# Altium schematic symbol library kmilo17pet-NSC_MiscPower.SchLib: 1552 symbols (part 1 of 43)
Pins are listed as number, name and electrical type; pins without a type are passive.

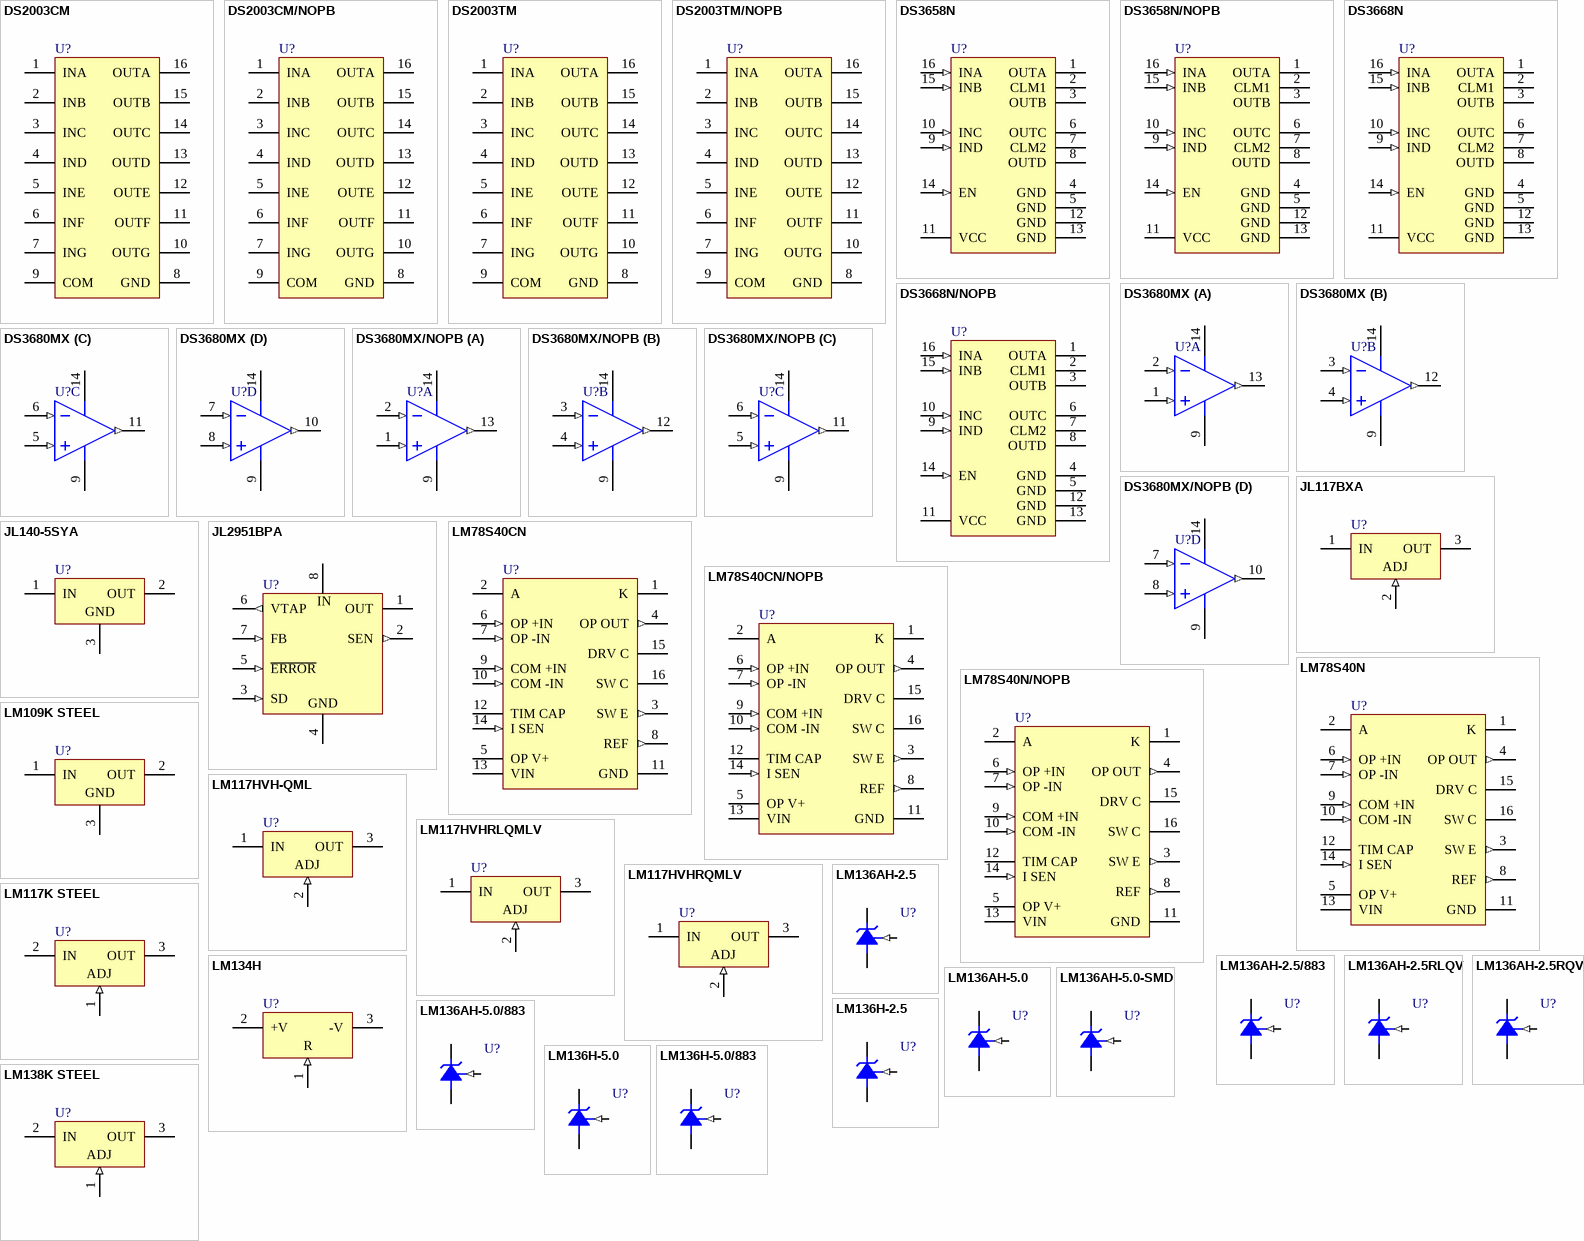
[diagram p0: symbols DS2003CM to LM138K STEEL]

## DS2003CM
designator U?
High Current/Voltage Darlington Driver, 16-pin Narrow SOIC; PartNumber: DS2003CM; Manufacturer: National Semiconductor; PackageTopMarking: NSUZXYTTE#*DS2003CM; PowerWise: N; CompType: MiscPower; High-Reliability: Y; DatasheetVersion: Nov-2009; PackageVersion: revJ, Aug-1995; PackageReference: M16A; PackageDescription: Molded Package, SO, .150in Wide, 16 Lead; RoHS: N; PinCount: 16; Code_JEDEC: MS-012-AC; Code_IPC: SOIC127P600-16; ComponentLink1Description: Manufacturer URL; ComponentLink1URL: http://www.national.com/; ComponentLink2Description: DS2003 Datasheet; ComponentLink2URL: http://www.national.com/ds/DS/DS2003.pdf; ComponentLink3Description: DS2003 Web Page; ComponentLink3URL: http://www.national.com/pf/DS/DS2003.html; ComponentLink4Description: M16A Package Page; ComponentLink4URL: http://www.national.com/packaging/folders/m16a.html
footprint M16A_N (SOIC, 16-Leads, Body 9.9x3.9mm, Pitch 1.27mm, IPC Medium Density)
footprint M16A_L (SOIC, 16-Leads, Body 9.9x3.9mm, Pitch 1.27mm, IPC High Density)
footprint M16A_M (SOIC, 16-Leads, Body 9.9x3.9mm, Pitch 1.27mm, IPC Low Density)
pins: 1 INA, 2 INB, 3 INC, 4 IND, 5 INE, 6 INF, 7 ING, 8 GND (power), 9 COM, 10 OUTG, 11 OUTF, 12 OUTE, 13 OUTD, 14 OUTC, 15 OUTB, 16 OUTA

## DS2003CM/NOPB
designator U?
High Current/Voltage Darlington Driver, 16-pin Narrow SOIC, Pb-Free; PartNumber: DS2003CM/NOPB; Manufacturer: National Semiconductor; PackageTopMarking: NSUZXYTTE#*DS2003CM; PowerWise: N; CompType: MiscPower; High-Reliability: Y; DatasheetVersion: Nov-2009; PackageVersion: revJ, Aug-1995; PackageReference: M16A; PackageDescription: Molded Package, SO, .150in Wide, 16 Lead; RoHS: Y; PinCount: 16; Code_JEDEC: MS-012-AC; Code_IPC: SOIC127P600-16; ComponentLink1Description: Manufacturer URL; ComponentLink1URL: http://www.national.com/; ComponentLink2Description: DS2003 Datasheet; ComponentLink2URL: http://www.national.com/ds/DS/DS2003.pdf; ComponentLink3Description: DS2003 Web Page; ComponentLink3URL: http://www.national.com/pf/DS/DS2003.html; ComponentLink4Description: M16A Package Page; ComponentLink4URL: http://www.national.com/packaging/folders/m16a.html
footprint M16A_N (SOIC, 16-Leads, Body 9.9x3.9mm, Pitch 1.27mm, IPC Medium Density)
footprint M16A_L (SOIC, 16-Leads, Body 9.9x3.9mm, Pitch 1.27mm, IPC High Density)
footprint M16A_M (SOIC, 16-Leads, Body 9.9x3.9mm, Pitch 1.27mm, IPC Low Density)
pins: 1 INA, 2 INB, 3 INC, 4 IND, 5 INE, 6 INF, 7 ING, 8 GND (power), 9 COM, 10 OUTG, 11 OUTF, 12 OUTE, 13 OUTD, 14 OUTC, 15 OUTB, 16 OUTA

## DS2003TM
designator U?
High Current/Voltage Darlington Driver, 16-pin Narrow SOIC; PartNumber: DS2003TM; Manufacturer: National Semiconductor; PackageTopMarking: NSUZXYTTE#*DS2003TM; PowerWise: N; CompType: MiscPower; High-Reliability: Y; DatasheetVersion: Nov-2009; PackageVersion: revJ, Aug-1995; PackageReference: M16A; PackageDescription: Molded Package, SO, .150in Wide, 16 Lead; RoHS: N; PinCount: 16; Code_JEDEC: MS-012-AC; Code_IPC: SOIC127P600-16; ComponentLink1Description: Manufacturer URL; ComponentLink1URL: http://www.national.com/; ComponentLink2Description: DS2003 Datasheet; ComponentLink2URL: http://www.national.com/ds/DS/DS2003.pdf; ComponentLink3Description: DS2003 Web Page; ComponentLink3URL: http://www.national.com/pf/DS/DS2003.html; ComponentLink4Description: M16A Package Page; ComponentLink4URL: http://www.national.com/packaging/folders/m16a.html
footprint M16A_N (SOIC, 16-Leads, Body 9.9x3.9mm, Pitch 1.27mm, IPC Medium Density)
footprint M16A_L (SOIC, 16-Leads, Body 9.9x3.9mm, Pitch 1.27mm, IPC High Density)
footprint M16A_M (SOIC, 16-Leads, Body 9.9x3.9mm, Pitch 1.27mm, IPC Low Density)
pins: 1 INA, 2 INB, 3 INC, 4 IND, 5 INE, 6 INF, 7 ING, 8 GND (power), 9 COM, 10 OUTG, 11 OUTF, 12 OUTE, 13 OUTD, 14 OUTC, 15 OUTB, 16 OUTA

## DS2003TM/NOPB
designator U?
High Current/Voltage Darlington Driver, 16-pin Narrow SOIC, Pb-Free; PartNumber: DS2003TM/NOPB; Manufacturer: National Semiconductor; PackageTopMarking: NSUZXYTTE#*DS2003TM; PowerWise: N; CompType: MiscPower; High-Reliability: Y; DatasheetVersion: Nov-2009; PackageVersion: revJ, Aug-1995; PackageReference: M16A; PackageDescription: Molded Package, SO, .150in Wide, 16 Lead; RoHS: Y; PinCount: 16; Code_JEDEC: MS-012-AC; Code_IPC: SOIC127P600-16; ComponentLink1Description: Manufacturer URL; ComponentLink1URL: http://www.national.com/; ComponentLink2Description: DS2003 Datasheet; ComponentLink2URL: http://www.national.com/ds/DS/DS2003.pdf; ComponentLink3Description: DS2003 Web Page; ComponentLink3URL: http://www.national.com/pf/DS/DS2003.html; ComponentLink4Description: M16A Package Page; ComponentLink4URL: http://www.national.com/packaging/folders/m16a.html
footprint M16A_N (SOIC, 16-Leads, Body 9.9x3.9mm, Pitch 1.27mm, IPC Medium Density)
footprint M16A_L (SOIC, 16-Leads, Body 9.9x3.9mm, Pitch 1.27mm, IPC High Density)
footprint M16A_M (SOIC, 16-Leads, Body 9.9x3.9mm, Pitch 1.27mm, IPC Low Density)
pins: 1 INA, 2 INB, 3 INC, 4 IND, 5 INE, 6 INF, 7 ING, 8 GND (power), 9 COM, 10 OUTG, 11 OUTF, 12 OUTE, 13 OUTD, 14 OUTC, 15 OUTB, 16 OUTA

## DS3658N
designator U?
Quad High Current Peripheral Driver, 16-pin MDIP; PartNumber: DS3658N; Manufacturer: National Semiconductor; PackageTopMarking: NSUZXYYTTE#*DS3658N; PowerWise: N; CompType: MiscPower; High-Reliability: Y; DatasheetVersion: Nov-2001; PackageVersion: revG, May-2006; PackageReference: N16E; PackageDescription: MDIP, .750 x .250 x .130in, 16 Lead, .100in Pitch; RoHS: N; PinCount: 16; Code_JEDEC: MS-001-BB; ComponentLink1Description: Manufacturer URL; ComponentLink1URL: http://www.national.com/; ComponentLink2Description: DS3658 Datasheet; ComponentLink2URL: http://www.national.com/ds/DS/DS3658.pdf; ComponentLink3Description: DS3658 Web Page; ComponentLink3URL: http://www.national.com/pf/DS/DS3658.html; ComponentLink4Description: N16E Package Page; ComponentLink4URL: http://www.national.com/packaging/folders/n16e.html
footprint N16E (DIP, 16-Leads, Row Spacing 7.62mm, Pitch 2.54mm, Body 19.3x6.35mm)
pins: 1 OUTA (oc), 2 CLM1, 3 OUTB (oc), 4 GND (power), 5 GND (power), 6 OUTC (oc), 7 CLM2, 8 OUTD (oc), 9 IND (in), 10 INC (in), 11 VCC (power), 12 GND (power), 13 GND (power), 14 EN (in), 15 INB (in), 16 INA (in)

## DS3658N/NOPB
designator U?
Quad High Current Peripheral Driver, 16-pin MDIP, Pb-Free; PartNumber: DS3658N/NOPB; Manufacturer: National Semiconductor; PackageTopMarking: NSUZXYYTTE#*DS3658N; PowerWise: N; CompType: MiscPower; High-Reliability: Y; DatasheetVersion: Nov-2001; PackageVersion: revG, May-2006; PackageReference: N16E; PackageDescription: MDIP, .750 x .250 x .130in, 16 Lead, .100in Pitch; RoHS: Y; PinCount: 16; Code_JEDEC: MS-001-BB; ComponentLink1Description: Manufacturer URL; ComponentLink1URL: http://www.national.com/; ComponentLink2Description: DS3658 Datasheet; ComponentLink2URL: http://www.national.com/ds/DS/DS3658.pdf; ComponentLink3Description: DS3658 Web Page; ComponentLink3URL: http://www.national.com/pf/DS/DS3658.html; ComponentLink4Description: N16E Package Page; ComponentLink4URL: http://www.national.com/packaging/folders/n16e.html
footprint N16E (DIP, 16-Leads, Row Spacing 7.62mm, Pitch 2.54mm, Body 19.3x6.35mm)
pins: 1 OUTA (oc), 2 CLM1, 3 OUTB (oc), 4 GND (power), 5 GND (power), 6 OUTC (oc), 7 CLM2, 8 OUTD (oc), 9 IND (in), 10 INC (in), 11 VCC (power), 12 GND (power), 13 GND (power), 14 EN (in), 15 INB (in), 16 INA (in)

## DS3668N
designator U?
Quad Fault Protected Peripheral Driver, 16-pin MDIP; PartNumber: DS3668N; Manufacturer: National Semiconductor; PackageTopMarking: NSUZXYYTTE#*DS3668N; PowerWise: N; CompType: MiscPower; High-Reliability: Y; DatasheetVersion: Nov-2001; PackageVersion: revG, May-2006; PackageReference: N16E; PackageDescription: MDIP, .750 x .250 x .130in, 16 Lead, .100in Pitch; RoHS: N; PinCount: 16; Code_JEDEC: MS-001-BB; ComponentLink1Description: Manufacturer URL; ComponentLink1URL: http://www.national.com/; ComponentLink2Description: DS3668 Datasheet; ComponentLink2URL: http://www.national.com/ds/DS/DS3668.pdf; ComponentLink3Description: DS3668 Web Page; ComponentLink3URL: http://www.national.com/pf/DS/DS3668.html; ComponentLink4Description: N16E Package Page; ComponentLink4URL: http://www.national.com/packaging/folders/n16e.html
footprint N16E (DIP, 16-Leads, Row Spacing 7.62mm, Pitch 2.54mm, Body 19.3x6.35mm)
pins: 1 OUTA (oc), 2 CLM1, 3 OUTB (oc), 4 GND (power), 5 GND (power), 6 OUTC (oc), 7 CLM2, 8 OUTD (oc), 9 IND (in), 10 INC (in), 11 VCC (power), 12 GND (power), 13 GND (power), 14 EN (in), 15 INB (in), 16 INA (in)

## DS3668N/NOPB
designator U?
Quad Fault Protected Peripheral Driver, 16-pin MDIP, Pb-Free; PartNumber: DS3668N/NOPB; Manufacturer: National Semiconductor; PackageTopMarking: NSUZXYYTTE#*DS3668N; PowerWise: N; CompType: MiscPower; High-Reliability: Y; DatasheetVersion: Nov-2001; PackageVersion: revG, May-2006; PackageReference: N16E; PackageDescription: MDIP, .750 x .250 x .130in, 16 Lead, .100in Pitch; RoHS: Y; PinCount: 16; Code_JEDEC: MS-001-BB; ComponentLink1Description: Manufacturer URL; ComponentLink1URL: http://www.national.com/; ComponentLink2Description: DS3668 Datasheet; ComponentLink2URL: http://www.national.com/ds/DS/DS3668.pdf; ComponentLink3Description: DS3668 Web Page; ComponentLink3URL: http://www.national.com/pf/DS/DS3668.html; ComponentLink4Description: N16E Package Page; ComponentLink4URL: http://www.national.com/packaging/folders/n16e.html
footprint N16E (DIP, 16-Leads, Row Spacing 7.62mm, Pitch 2.54mm, Body 19.3x6.35mm)
pins: 1 OUTA (oc), 2 CLM1, 3 OUTB (oc), 4 GND (power), 5 GND (power), 6 OUTC (oc), 7 CLM2, 8 OUTD (oc), 9 IND (in), 10 INC (in), 11 VCC (power), 12 GND (power), 13 GND (power), 14 EN (in), 15 INB (in), 16 INA (in)

## DS3680MX
designator U?
Quad Negative Voltage Relay Driver, 14-pin Narrow SOIC; PartNumber: DS3680MX; Manufacturer: National Semiconductor; PackageTopMarking: NSUZXYTT*DS3680M; PowerWise: N; CompType: MiscPower; High-Reliability: Y; DatasheetVersion: Dec-2008; PackageVersion: revJ, Jan-1996; PackageReference: M14A; PackageDescription: Molded Package S.O., .150in Wide, 14 Lead; RoHS: N; PinCount: 14; Code_JEDEC: MS-012AB; Code_IPC: SOIC127P600-14; ComponentLink1Description: Manufacturer URL; ComponentLink1URL: http://www.national.com/; ComponentLink2Description: DS3680 Datasheet; ComponentLink2URL: http://www.national.com/ds/DS/DS3680.pdf; ComponentLink3Description: DS3680 Web Page; ComponentLink3URL: http://www.national.com/pf/DS/DS3680.html; ComponentLink4Description: M14A Package Page; ComponentLink4URL: http://www.national.com/packaging/folders/m14a.html
footprint M14A_N (SOIC, 14-Leads, Body 8.6x3.9mm, Pitch 1.27mm, IPC Medium Density)
footprint M14A_L (SOIC, 14-Leads, Body 8.6x3.9mm, Pitch 1.27mm, IPC High Density)
footprint M14A_M (SOIC, 14-Leads, Body 8.6x3.9mm, Pitch 1.27mm, IPC Low Density)
pins on every part: 9 VEE- (power), 14 GND (power)
part A pins: 1 +A IN (in), 2 -A IN (in), 13 OUT A (out)
part B pins: 3 -B IN (in), 4 +B IN (in), 12 OUT B (out)
part C pins: 5 +C IN (in), 6 -C IN (in), 11 OUT C (out)
part D pins: 7 -D IN (in), 8 +D IN (in), 10 OUT D (out)

## DS3680MX/NOPB
designator U?
Quad Negative Voltage Relay Driver, 14-pin Narrow SOIC, Pb-Free; PartNumber: DS3680MX/NOPB; Manufacturer: National Semiconductor; PackageTopMarking: NSUZXYTT*DS3680M; PowerWise: N; CompType: MiscPower; High-Reliability: Y; DatasheetVersion: Dec-2008; PackageVersion: revJ, Jan-1996; PackageReference: M14A; PackageDescription: Molded Package S.O., .150in Wide, 14 Lead; RoHS: Y; PinCount: 14; Code_JEDEC: MS-012AB; Code_IPC: SOIC127P600-14; ComponentLink1Description: Manufacturer URL; ComponentLink1URL: http://www.national.com/; ComponentLink2Description: DS3680 Datasheet; ComponentLink2URL: http://www.national.com/ds/DS/DS3680.pdf; ComponentLink3Description: DS3680 Web Page; ComponentLink3URL: http://www.national.com/pf/DS/DS3680.html; ComponentLink4Description: M14A Package Page; ComponentLink4URL: http://www.national.com/packaging/folders/m14a.html
footprint M14A_N (SOIC, 14-Leads, Body 8.6x3.9mm, Pitch 1.27mm, IPC Medium Density)
footprint M14A_L (SOIC, 14-Leads, Body 8.6x3.9mm, Pitch 1.27mm, IPC High Density)
footprint M14A_M (SOIC, 14-Leads, Body 8.6x3.9mm, Pitch 1.27mm, IPC Low Density)
pins on every part: 9 VEE- (power), 14 GND (power)
part A pins: 1 +A IN (in), 2 -A IN (in), 13 OUT A (out)
part B pins: 3 -B IN (in), 4 +B IN (in), 12 OUT B (out)
part C pins: 5 +C IN (in), 6 -C IN (in), 11 OUT C (out)
part D pins: 7 -D IN (in), 8 +D IN (in), 10 OUT D (out)

## JL117BXA
designator U?
3-Terminal Adjustable Regulator, 3-pin TO-39; PartNumber: JL117BXA; Manufacturer: National Semiconductor; PackageTopMarking: NS ZSSXXYYA 27014 Q*JM38510/11703BXA; PowerWise: N; CompType: MiscPower; High-Reliability: Y; DatasheetVersion: Mar-2010; PackageVersion: revD, Feb-1995; PackageReference: H03A; PackageDescription: Metal Can, TO-39, 3 Lead, .200in Dia, P.C.; RoHS: N; PinCount: 3; Code_JEDEC: TO-39; ComponentLink1Description: Manufacturer URL; ComponentLink1URL: http://www.national.com/; ComponentLink2Description: LM117JAN Datasheet; ComponentLink2URL: http://www.national.com/ds/LM/LM117JAN.pdf; ComponentLink3Description: LM117JAN Web Page; ComponentLink3URL: http://www.national.com/pf/LM/LM117JAN.html; ComponentLink4Description: H03A Package Page; ComponentLink4URL: http://www.national.com/packaging/folders/h03a.html
footprint H03A (Can; 3 Leads; Pin Circle Dia. 5.08 mm; Lead Dia. 0.48 mm (max))
pins: 1 IN (power), 2 ADJ (in), 3 OUT (power)

## JL140-5SYA
designator U?
Three Terminal Positive Regulators, 2 pin TO-3; PartNumber: JL140-5SYA; Manufacturer: National Semiconductor; PackageTopMarking: NSZSSXXYYA*JM38510/*10706SYA*27014 Q; PowerWise: N; CompType: MiscPower; High-Reliability: Y; DatasheetVersion: Feb-2006; PackageVersion: revE, Sep-1995; PackageReference: K02C; PackageDescription: Metal Can TO-3, 2 Lead, Low Profile; RoHS: N; PinCount: 2; ComponentLink1Description: Manufacturer URL; ComponentLink1URL: http://www.national.com/; ComponentLink2Description: LM140JAN Datasheet; ComponentLink2URL: http://www.national.com/ds/LM/LM140JAN.pdf; ComponentLink3Description: LM140JAN Web Page; ComponentLink3URL: http://www.national.com/pf/LM/LM140JAN.html; ComponentLink4Description: K02C Package Page; ComponentLink4URL: http://www.national.com/packaging/folders/k02c.html
footprint K02C (Oval Flange Mount with (2) Offset Leads; Pin Spacing 10.92 mm; Lead Dia. 1.09 mm (max))
pins: 1 IN, 2 OUT, 3 GND (power)

## JL2951BPA
designator U?
Adjustable Micropower Voltage Regulator, 8-pin CerDIP; PartNumber: JL2951BPA; Manufacturer: National Semiconductor; PackageTopMarking: NS 5962-*3870501BPA*27014 Q*ZSSXXYYA; PowerWise: N; CompType: MiscPower; High-Reliability: Y; DatasheetVersion: Jun-2009; PackageVersion: revM, Jul-2002; PackageReference: J08A; PackageDescription: Cerdip, .400 x .310in Body, 8 Lead, .300in Centers, .100in Pitch; RoHS: N; PinCount: 8; ComponentLink1Description: Manufacturer URL; ComponentLink1URL: http://www.national.com/; ComponentLink2Description: LP2951 Datasheet; ComponentLink2URL: http://www.national.com/ds/LP/LP2951JAN.pdf; ComponentLink3Description: LP2951 Web Page; ComponentLink3URL: http://www.national.com/pf/LP/LP2951.html; ComponentLink4Description: J08A Package Page; ComponentLink4URL: http://www.national.com/packaging/folders/j08a.html
footprint J08A (DIP, 8-Leads, Row Spacing 7.62mm, Pitch 2.54mm, Body 9.78x6.73mm)
pins: 1 OUT (power), 2 SEN (out), 3 SD (in), 4 GND (power), 5 ~{ERROR} (in), 6 VTAP (out), 7 FB (in), 8 IN (power)

## LM78S40CN
designator U?
Universal Switching Regulator Subsystem, 16-pin MDIP; PartNumber: LM78S40CN; Manufacturer: National Semiconductor; PackageTopMarking: NSUZXYYTTE#*LM78S40CN; PowerWise: N; CompType: MiscPower; High-Reliability: Y; DatasheetVersion: Apr-1998; PackageVersion: revG, May-2006; PackageReference: N16E; PackageDescription: MDIP, .750 x .250 x .130in, 16 Lead, .100in Pitch; RoHS: N; PinCount: 16; Code_JEDEC: MS-001-BB; ComponentLink1Description: Manufacturer URL; ComponentLink1URL: http://www.national.com/; ComponentLink2Description: LM78S40 Datasheet; ComponentLink2URL: http://www.national.com/ds/LM/LM78S40.pdf; ComponentLink3Description: LM78S40 Web Page; ComponentLink3URL: http://www.national.com/pf/LM/LM78S40.html; ComponentLink4Description: N16E Package Page; ComponentLink4URL: http://www.national.com/packaging/folders/n16e.html
footprint N16E (DIP, 16-Leads, Row Spacing 7.62mm, Pitch 2.54mm, Body 19.3x6.35mm)
pins: 1 K, 2 A, 3 SW E (out), 4 OP OUT (out), 5 OP V+ (power), 6 OP +IN (in), 7 OP -IN (in), 8 REF (out), 9 COM +IN (in), 10 COM -IN (in), 11 GND (power), 12 TIM CAP, 13 VIN (power), 14 I SEN (in), 15 DRV C (oc), 16 SW C (oc)

## LM78S40CN/NOPB
designator U?
Universal Switching Regulator Subsystem, 16-pin MDIP, Pb-Free; PartNumber: LM78S40CN/NOPB; Manufacturer: National Semiconductor; PackageTopMarking: NSUZXYYTTE#*LM78S40CN; PowerWise: N; CompType: MiscPower; High-Reliability: Y; DatasheetVersion: Apr-1998; PackageVersion: revG, May-2006; PackageReference: N16E; PackageDescription: MDIP, .750 x .250 x .130in, 16 Lead, .100in Pitch; RoHS: Y; PinCount: 16; Code_JEDEC: MS-001-BB; ComponentLink1Description: Manufacturer URL; ComponentLink1URL: http://www.national.com/; ComponentLink2Description: LM78S40 Datasheet; ComponentLink2URL: http://www.national.com/ds/LM/LM78S40.pdf; ComponentLink3Description: LM78S40 Web Page; ComponentLink3URL: http://www.national.com/pf/LM/LM78S40.html; ComponentLink4Description: N16E Package Page; ComponentLink4URL: http://www.national.com/packaging/folders/n16e.html
footprint N16E (DIP, 16-Leads, Row Spacing 7.62mm, Pitch 2.54mm, Body 19.3x6.35mm)
pins: 1 K, 2 A, 3 SW E (out), 4 OP OUT (out), 5 OP V+ (power), 6 OP +IN (in), 7 OP -IN (in), 8 REF (out), 9 COM +IN (in), 10 COM -IN (in), 11 GND (power), 12 TIM CAP, 13 VIN (power), 14 I SEN (in), 15 DRV C (oc), 16 SW C (oc)

## LM78S40N
designator U?
Universal Switching Regulator Subsystem, 16-pin MDIP; PartNumber: LM78S40N; Manufacturer: National Semiconductor; PackageTopMarking: NSUZXYYTTE#*LM78S40N; PowerWise: N; CompType: MiscPower; High-Reliability: Y; DatasheetVersion: Apr-1998; PackageVersion: revG, May-2006; PackageReference: N16E; PackageDescription: MDIP, .750 x .250 x .130in, 16 Lead, .100in Pitch; RoHS: N; PinCount: 16; Code_JEDEC: MS-001-BB; ComponentLink1Description: Manufacturer URL; ComponentLink1URL: http://www.national.com/; ComponentLink2Description: LM78S40 Datasheet; ComponentLink2URL: http://www.national.com/ds/LM/LM78S40.pdf; ComponentLink3Description: LM78S40 Web Page; ComponentLink3URL: http://www.national.com/pf/LM/LM78S40.html; ComponentLink4Description: N16E Package Page; ComponentLink4URL: http://www.national.com/packaging/folders/n16e.html
footprint N16E (DIP, 16-Leads, Row Spacing 7.62mm, Pitch 2.54mm, Body 19.3x6.35mm)
pins: 1 K, 2 A, 3 SW E (out), 4 OP OUT (out), 5 OP V+ (power), 6 OP +IN (in), 7 OP -IN (in), 8 REF (out), 9 COM +IN (in), 10 COM -IN (in), 11 GND (power), 12 TIM CAP, 13 VIN (power), 14 I SEN (in), 15 DRV C (oc), 16 SW C (oc)

## LM78S40N/NOPB
designator U?
Universal Switching Regulator Subsystem, 16-pin MDIP, Pb-Free; PartNumber: LM78S40N/NOPB; Manufacturer: National Semiconductor; PackageTopMarking: NSUZXYYTTE#*LM78S40N; PowerWise: N; CompType: MiscPower; High-Reliability: Y; DatasheetVersion: Apr-1998; PackageVersion: revG, May-2006; PackageReference: N16E; PackageDescription: MDIP, .750 x .250 x .130in, 16 Lead, .100in Pitch; RoHS: Y; PinCount: 16; Code_JEDEC: MS-001-BB; ComponentLink1Description: Manufacturer URL; ComponentLink1URL: http://www.national.com/; ComponentLink2Description: LM78S40 Datasheet; ComponentLink2URL: http://www.national.com/ds/LM/LM78S40.pdf; ComponentLink3Description: LM78S40 Web Page; ComponentLink3URL: http://www.national.com/pf/LM/LM78S40.html; ComponentLink4Description: N16E Package Page; ComponentLink4URL: http://www.national.com/packaging/folders/n16e.html
footprint N16E (DIP, 16-Leads, Row Spacing 7.62mm, Pitch 2.54mm, Body 19.3x6.35mm)
pins: 1 K, 2 A, 3 SW E (out), 4 OP OUT (out), 5 OP V+ (power), 6 OP +IN (in), 7 OP -IN (in), 8 REF (out), 9 COM +IN (in), 10 COM -IN (in), 11 GND (power), 12 TIM CAP, 13 VIN (power), 14 I SEN (in), 15 DRV C (oc), 16 SW C (oc)

## LM109K STEEL
designator U?
5-Volt Regulator, 3-pin TO-3; PartNumber: LM109K STEEL; Manufacturer: National Semiconductor; PackageTopMarking: NS*ZXYTTE#*LM109K*STEELP+; PowerWise: N; CompType: MiscPower; High-Reliability: Y; DatasheetVersion: Apr-1998; PackageVersion: revG, Oct-1991; PackageReference: K02A; PackageDescription: Metal Can (KA) TO-3, 2 Lead; RoHS: N; PinCount: 2; ComponentLink1Description: Manufacturer URL; ComponentLink1URL: http://www.national.com/; ComponentLink2Description: LM109 Datasheet; ComponentLink2URL: http://www.national.com/ds/LM/LM109.pdf; ComponentLink3Description: LM109 Web Page; ComponentLink3URL: http://www.national.com/pf/LM/LM109.html; ComponentLink4Description: K02A Package Page; ComponentLink4URL: http://www.national.com/packaging/folders/k02a.html
footprint K02A (Oval Flange Mount with (2) Offset Leads; Pin Spacing 10.93 mm; Lead Dia. 1.09 mm (max))
pins: 1 IN (power), 2 OUT (power), 3 GND (power)

## LM117HVH-QML
designator U?
3-Terminal Adjustable Regulator, 3-pin TO-39; PartNumber: LM117HVH-QML; Manufacturer: National Semiconductor; PackageTopMarking: NSZSSXXYYA 5962-07229*01QXA LM117HVH-QML Q; PowerWise: N; CompType: MiscPower; High-Reliability: Y; DatasheetVersion: Apr-2000; PackageVersion: revD, Feb-1995; PackageReference: H03A; PackageDescription: Metal Can, TO-39, 3 Lead, .200in Dia, P.C.; RoHS: N; PinCount: 3; Code_JEDEC: TO-39; ComponentLink1Description: Manufacturer URL; ComponentLink1URL: http://www.national.com/; ComponentLink2Description: LM117HV Datasheet; ComponentLink2URL: http://www.national.com/ds/LM/LM117HVQML.pdf; ComponentLink3Description: LM117HV Web Page; ComponentLink3URL: http://www.national.com/pf/LM/LM117HV.html; ComponentLink4Description: H03A Package Page; ComponentLink4URL: http://www.national.com/packaging/folders/h03a.html
footprint H03A (Can; 3 Leads; Pin Circle Dia. 5.08 mm; Lead Dia. 0.48 mm (max))
pins: 1 IN (power), 2 ADJ (in), 3 OUT (power)

## LM117HVHRLQMLV
designator U?
3-Terminal Adjustable Regulator, 3-pin TO-39; PartNumber: LM117HVHRLQMLV; Manufacturer: National Semiconductor; PackageTopMarking: NSZSSXXYYA 5962R07229*61VXA LM117HVHRLQV Q; PowerWise: N; CompType: MiscPower; High-Reliability: Y; DatasheetVersion: Apr-2000; PackageVersion: revD, Feb-1995; PackageReference: H03A; PackageDescription: Metal Can, TO-39, 3 Lead, .200in Dia, P.C.; RoHS: N; PinCount: 3; Code_JEDEC: TO-39; ComponentLink1Description: Manufacturer URL; ComponentLink1URL: http://www.national.com/; ComponentLink2Description: LM117HV Datasheet; ComponentLink2URL: http://www.national.com/ds/LM/LM117HVQML.pdf; ComponentLink3Description: LM117HV Web Page; ComponentLink3URL: http://www.national.com/pf/LM/LM117HV.html; ComponentLink4Description: H03A Package Page; ComponentLink4URL: http://www.national.com/packaging/folders/h03a.html
footprint H03A (Can; 3 Leads; Pin Circle Dia. 5.08 mm; Lead Dia. 0.48 mm (max))
pins: 1 IN (power), 2 ADJ (in), 3 OUT (power)

## LM117HVHRQMLV
designator U?
3-Terminal Adjustable Regulator, 3-pin TO-39; PartNumber: LM117HVHRQMLV; Manufacturer: National Semiconductor; PackageTopMarking: NSZSSXXYYA 5962R07229*01VXA LM117HVHRQV Q; PowerWise: N; CompType: MiscPower; High-Reliability: Y; DatasheetVersion: Apr-2000; PackageVersion: revD, Feb-1995; PackageReference: H03A; PackageDescription: Metal Can, TO-39, 3 Lead, .200in Dia, P.C.; RoHS: N; PinCount: 3; Code_JEDEC: TO-39; ComponentLink1Description: Manufacturer URL; ComponentLink1URL: http://www.national.com/; ComponentLink2Description: LM117HV Datasheet; ComponentLink2URL: http://www.national.com/ds/LM/LM117HVQML.pdf; ComponentLink3Description: LM117HV Web Page; ComponentLink3URL: http://www.national.com/pf/LM/LM117HV.html; ComponentLink4Description: H03A Package Page; ComponentLink4URL: http://www.national.com/packaging/folders/h03a.html
footprint H03A (Can; 3 Leads; Pin Circle Dia. 5.08 mm; Lead Dia. 0.48 mm (max))
pins: 1 IN (power), 2 ADJ (in), 3 OUT (power)

## LM117K STEEL
designator U?
3-Terminal Adjustable Regulator, 3-pin TO-3; PartNumber: LM117K STEEL; Manufacturer: National Semiconductor; PackageTopMarking: NS*ZXYTTE#*LM117K*STEELP+; PowerWise: N; CompType: MiscPower; High-Reliability: Y; DatasheetVersion: Mar-2010; PackageVersion: revG, Oct-1991; PackageReference: K02A; PackageDescription: Metal Can (KA) TO-3, 2 Lead; RoHS: N; PinCount: 2; ComponentLink1Description: Manufacturer URL; ComponentLink1URL: http://www.national.com/; ComponentLink2Description: LM117 Datasheet; ComponentLink2URL: http://www.national.com/ds/LM/LM117.pdf; ComponentLink3Description: LM117 Web Page; ComponentLink3URL: http://www.national.com/pf/LM/LM117.html; ComponentLink4Description: K02A Package Page; ComponentLink4URL: http://www.national.com/packaging/folders/k02a.html
footprint K02A (Oval Flange Mount with (2) Offset Leads; Pin Spacing 10.93 mm; Lead Dia. 1.09 mm (max))
pins: 1 ADJ (in), 2 IN (power), 3 OUT (power)

## LM134H
designator U?
3-Terminal Adjustable Current Source, 3-pin TO-46; PartNumber: LM134H; Manufacturer: National Semiconductor; PackageTopMarking: NSXYTTE# LM134H; PowerWise: N; CompType: MiscPower; High-Reliability: Y; DatasheetVersion: Mar-2005; PackageVersion: revF, Apr-2002; PackageReference: H03H; PackageDescription: Metal Can, TO-46, 3 Lead, .100in Dia, P.C.; RoHS: N; PinCount: 3; Code_JEDEC: TO-46; ComponentLink1Description: Manufacturer URL; ComponentLink1URL: http://www.national.com/; ComponentLink2Description: LM134 Datasheet; ComponentLink2URL: http://www.national.com/ds/LM/LM134.pdf; ComponentLink3Description: LM134 Web Page; ComponentLink3URL: http://www.national.com/pf/LM/LM134.html; ComponentLink4Description: H03H Package Page; ComponentLink4URL: http://www.national.com/packaging/folders/h03h.html
footprint H03H (Can; 3 Leads; Pin Circle Dia. 2.54 mm; Lead Dia. 0.48 mm (max))
pins: 1 R (in), 2 +V, 3 -V

## LM136AH-2.5
designator U?
Voltage Reference Diode, 3-pin TO-46; PartNumber: LM136AH-2.5; Manufacturer: National Semiconductor; PackageTopMarking: NSXYTTE# LM136AH2.5; PowerWise: N; CompType: MiscPower; High-Reliability: Y; DatasheetVersion: Feb-2009; PackageVersion: revF, Apr-2002; PackageReference: H03H; PackageDescription: Metal Can, TO-46, 3 Lead, .100in Dia, P.C.; RoHS: N; PinCount: 3; Code_JEDEC: TO-46; ComponentLink1Description: Manufacturer URL; ComponentLink1URL: http://www.national.com/; ComponentLink2Description: LM136-2.5 Datasheet; ComponentLink2URL: http://www.national.com/ds/LM/LM136-2.5.pdf; ComponentLink3Description: LM136-2.5 Web Page; ComponentLink3URL: http://www.national.com/pf/LM/LM136-2.5.html; ComponentLink4Description: H03H Package Page; ComponentLink4URL: http://www.national.com/packaging/folders/h03h.html
footprint H03H (Can; 3 Leads; Pin Circle Dia. 2.54 mm; Lead Dia. 0.48 mm (max))
pins: 1 ADJ (in), 2 +V, 3 -V

## LM136AH-2.5/883
designator U?
Voltage Reference Diode, 3-pin TO-46; PartNumber: LM136AH-2.5/883; Manufacturer: National Semiconductor; PackageTopMarking: NSZSSXXYYA LM136AH-2.5 Q; PowerWise: N; CompType: MiscPower; High-Reliability: Y; DatasheetVersion: Feb-2009; PackageVersion: revF, Apr-2002; PackageReference: H03H; PackageDescription: Metal Can, TO-46, 3 Lead, .100in Dia, P.C.; RoHS: N; PinCount: 3; Code_JEDEC: TO-46; ComponentLink1Description: Manufacturer URL; ComponentLink1URL: http://www.national.com/; ComponentLink2Description: LM136A-2.5QML Datasheet; ComponentLink2URL: http://www.national.com/ds/LM/LM136A-2.5QML.pdf; ComponentLink3Description: LM136A-2.5QML Web Page; ComponentLink3URL: http://www.national.com/pf/LM/LM136A-2.5QML.html; ComponentLink4Description: H03H Package Page; ComponentLink4URL: http://www.national.com/packaging/folders/h03h.html
footprint H03H (Can; 3 Leads; Pin Circle Dia. 2.54 mm; Lead Dia. 0.48 mm (max))
pins: 1 ADJ (in), 2 +V, 3 -V

## LM136AH-2.5RLQV
designator U?
Voltage Reference Diode, 3-pin TO-46; PartNumber: LM136AH-2.5RLQV; Manufacturer: National Semiconductor; PackageTopMarking: NSZSSXXYYAR0050102VXA Q; PowerWise: N; CompType: MiscPower; High-Reliability: Y; DatasheetVersion: Feb-2009; PackageVersion: revF, Apr-2002; PackageReference: H03H; PackageDescription: Metal Can, TO-46, 3 Lead, .100in Dia, P.C.; RoHS: N; PinCount: 3; Code_JEDEC: TO-46; ComponentLink1Description: Manufacturer URL; ComponentLink1URL: http://www.national.com/; ComponentLink2Description: LM136A-2.5QML Datasheet; ComponentLink2URL: http://www.national.com/ds/LM/LM136A-2.5QML.pdf; ComponentLink3Description: LM136A-2.5QML Web Page; ComponentLink3URL: http://www.national.com/pf/LM/LM136A-2.5QML.html; ComponentLink4Description: H03H Package Page; ComponentLink4URL: http://www.national.com/packaging/folders/h03h.html
footprint H03H (Can; 3 Leads; Pin Circle Dia. 2.54 mm; Lead Dia. 0.48 mm (max))
pins: 1 ADJ (in), 2 +V, 3 -V

## LM136AH-2.5RQV
designator U?
Voltage Reference Diode, 3-pin TO-46; PartNumber: LM136AH-2.5RQV; Manufacturer: National Semiconductor; PackageTopMarking: NSZSSXXYYAR0050101VXA Q; PowerWise: N; CompType: MiscPower; High-Reliability: Y; DatasheetVersion: Feb-2009; PackageVersion: revF, Apr-2002; PackageReference: H03H; PackageDescription: Metal Can, TO-46, 3 Lead, .100in Dia, P.C.; RoHS: N; PinCount: 3; Code_JEDEC: TO-46; ComponentLink1Description: Manufacturer URL; ComponentLink1URL: http://www.national.com/; ComponentLink2Description: LM136A-2.5QML Datasheet; ComponentLink2URL: http://www.national.com/ds/LM/LM136A-2.5QML.pdf; ComponentLink3Description: LM136A-2.5QML Web Page; ComponentLink3URL: http://www.national.com/pf/LM/LM136A-2.5QML.html; ComponentLink4Description: H03H Package Page; ComponentLink4URL: http://www.national.com/packaging/folders/h03h.html
footprint H03H (Can; 3 Leads; Pin Circle Dia. 2.54 mm; Lead Dia. 0.48 mm (max))
pins: 1 ADJ (in), 2 +V, 3 -V

## LM136AH-5.0
designator U?
5.0V Reference Diode, 3-pin TO-46; PartNumber: LM136AH-5.0; Manufacturer: National Semiconductor; PackageTopMarking: NSXYTTE# LM136AH5.0; PowerWise: N; CompType: MiscPower; High-Reliability: Y; DatasheetVersion: Feb-2009; PackageVersion: revF, Apr-2002; PackageReference: H03H; PackageDescription: Metal Can, TO-46, 3 Lead, .100in Dia, P.C.; RoHS: N; PinCount: 3; Code_JEDEC: TO-46; ComponentLink1Description: Manufacturer URL; ComponentLink1URL: http://www.national.com/; ComponentLink2Description: LM136-5.0 Datasheet; ComponentLink2URL: http://www.national.com/ds/LM/LM136-5.0.pdf; ComponentLink3Description: LM136-5.0 Web Page; ComponentLink3URL: http://www.national.com/pf/LM/LM136-5.0.html; ComponentLink4Description: H03H Package Page; ComponentLink4URL: http://www.national.com/packaging/folders/h03h.html
footprint H03H (Can; 3 Leads; Pin Circle Dia. 2.54 mm; Lead Dia. 0.48 mm (max))
pins: 1 ADJ (in), 2 +V, 3 -V

## LM136AH-5.0-SMD
designator U?
5.0V Reference Diode, 3-pin TO-46; PartNumber: LM136AH-5.0-SMD; Manufacturer: National Semiconductor; PackageTopMarking: NSZSSXXYYA 8418002XA Q; PowerWise: N; CompType: MiscPower; High-Reliability: Y; DatasheetVersion: Apr-2008; PackageVersion: revF, Apr-2002; PackageReference: H03H; PackageDescription: Metal Can, TO-46, 3 Lead, .100in Dia, P.C.; RoHS: N; PinCount: 3; Code_JEDEC: TO-46; ComponentLink1Description: Manufacturer URL; ComponentLink1URL: http://www.national.com/; ComponentLink2Description: LM136A-5.0QML Datasheet; ComponentLink2URL: http://www.national.com/ds/LM/LM136A-5.0QML.pdf; ComponentLink3Description: LM136A-5.0QML Web Page; ComponentLink3URL: http://www.national.com/pf/LM/LM136A-5.0QML.html; ComponentLink4Description: H03H Package Page; ComponentLink4URL: http://www.national.com/packaging/folders/h03h.html
footprint H03H (Can; 3 Leads; Pin Circle Dia. 2.54 mm; Lead Dia. 0.48 mm (max))
pins: 1 ADJ (in), 2 +V, 3 -V

## LM136AH-5.0/883
designator U?
5.0V Reference Diode, 3-pin TO-46; PartNumber: LM136AH-5.0/883; Manufacturer: National Semiconductor; PackageTopMarking: NSZSSXXYYA LM136AH-5.0 Q; PowerWise: N; CompType: MiscPower; High-Reliability: Y; DatasheetVersion: Apr-2008; PackageVersion: revF, Apr-2002; PackageReference: H03H; PackageDescription: Metal Can, TO-46, 3 Lead, .100in Dia, P.C.; RoHS: N; PinCount: 3; Code_JEDEC: TO-46; ComponentLink1Description: Manufacturer URL; ComponentLink1URL: http://www.national.com/; ComponentLink2Description: LM136A-5.0QML Datasheet; ComponentLink2URL: http://www.national.com/ds/LM/LM136A-5.0QML.pdf; ComponentLink3Description: LM136A-5.0QML Web Page; ComponentLink3URL: http://www.national.com/pf/LM/LM136A-5.0QML.html; ComponentLink4Description: H03H Package Page; ComponentLink4URL: http://www.national.com/packaging/folders/h03h.html
footprint H03H (Can; 3 Leads; Pin Circle Dia. 2.54 mm; Lead Dia. 0.48 mm (max))
pins: 1 ADJ (in), 2 +V, 3 -V

## LM136H-2.5
designator U?
Voltage Reference Diode, 3-pin TO-46; PartNumber: LM136H-2.5; Manufacturer: National Semiconductor; PackageTopMarking: NSXYTTE# LM136H2.5; PowerWise: N; CompType: MiscPower; High-Reliability: Y; DatasheetVersion: Feb-2009; PackageVersion: revF, Apr-2002; PackageReference: H03H; PackageDescription: Metal Can, TO-46, 3 Lead, .100in Dia, P.C.; RoHS: N; PinCount: 3; Code_JEDEC: TO-46; ComponentLink1Description: Manufacturer URL; ComponentLink1URL: http://www.national.com/; ComponentLink2Description: LM136-2.5 Datasheet; ComponentLink2URL: http://www.national.com/ds/LM/LM136-2.5.pdf; ComponentLink3Description: LM136-2.5 Web Page; ComponentLink3URL: http://www.national.com/pf/LM/LM136-2.5.html; ComponentLink4Description: H03H Package Page; ComponentLink4URL: http://www.national.com/packaging/folders/h03h.html
footprint H03H (Can; 3 Leads; Pin Circle Dia. 2.54 mm; Lead Dia. 0.48 mm (max))
pins: 1 ADJ (in), 2 +V, 3 -V

## LM136H-5.0
designator U?
5.0V Reference Diode, 3-pin TO-46; PartNumber: LM136H-5.0; Manufacturer: National Semiconductor; PackageTopMarking: NSXYTTE# LM136H5.0; PowerWise: N; CompType: MiscPower; High-Reliability: Y; DatasheetVersion: Feb-2009; PackageVersion: revF, Apr-2002; PackageReference: H03H; PackageDescription: Metal Can, TO-46, 3 Lead, .100in Dia, P.C.; RoHS: N; PinCount: 3; Code_JEDEC: TO-46; ComponentLink1Description: Manufacturer URL; ComponentLink1URL: http://www.national.com/; ComponentLink2Description: LM136-5.0 Datasheet; ComponentLink2URL: http://www.national.com/ds/LM/LM136-5.0.pdf; ComponentLink3Description: LM136-5.0 Web Page; ComponentLink3URL: http://www.national.com/pf/LM/LM136-5.0.html; ComponentLink4Description: H03H Package Page; ComponentLink4URL: http://www.national.com/packaging/folders/h03h.html
footprint H03H (Can; 3 Leads; Pin Circle Dia. 2.54 mm; Lead Dia. 0.48 mm (max))
pins: 1 ADJ (in), 2 +V, 3 -V

## LM136H-5.0/883
designator U?
5.0V Reference Diode, 3-pin TO-46; PartNumber: LM136H-5.0/883; Manufacturer: National Semiconductor; PackageTopMarking: NSZSSXXYYA LM136H-5.0 Q; PowerWise: N; CompType: MiscPower; High-Reliability: Y; DatasheetVersion: Apr-2008; PackageVersion: revF, Apr-2002; PackageReference: H03H; PackageDescription: Metal Can, TO-46, 3 Lead, .100in Dia, P.C.; RoHS: N; PinCount: 3; Code_JEDEC: TO-46; ComponentLink1Description: Manufacturer URL; ComponentLink1URL: http://www.national.com/; ComponentLink2Description: LM136-5.0QML Datasheet; ComponentLink2URL: http://www.national.com/ds/LM/LM136-5.0QML.pdf; ComponentLink3Description: LM136-5.0QML Web Page; ComponentLink3URL: http://www.national.com/pf/LM/LM136-5.0QML.html; ComponentLink4Description: H03H Package Page; ComponentLink4URL: http://www.national.com/packaging/folders/h03h.html
footprint H03H (Can; 3 Leads; Pin Circle Dia. 2.54 mm; Lead Dia. 0.48 mm (max))
pins: 1 ADJ (in), 2 +V, 3 -V

## LM138K STEEL
designator U?
5 Amp Adjustable Regulator, 3-pin TO-3; PartNumber: LM138K STEEL; Manufacturer: National Semiconductor; PackageTopMarking: NS*ZXYTTE#*LM138K*STEELP+; PowerWise: N; CompType: MiscPower; High-Reliability: Y; DatasheetVersion: May-1998; PackageVersion: revG, Oct-1991; PackageReference: K02A; PackageDescription: Metal Can (KA) TO-3, 2 Lead; RoHS: N; PinCount: 2; ComponentLink1Description: Manufacturer URL; ComponentLink1URL: http://www.national.com/; ComponentLink2Description: LM138 Datasheet; ComponentLink2URL: http://www.national.com/ds/LM/LM138.pdf; ComponentLink3Description: LM138 Web Page; ComponentLink3URL: http://www.national.com/pf/LM/LM138.html; ComponentLink4Description: K02A Package Page; ComponentLink4URL: http://www.national.com/packaging/folders/k02a.html
footprint K02A (Oval Flange Mount with (2) Offset Leads; Pin Spacing 10.93 mm; Lead Dia. 1.09 mm (max))
pins: 1 ADJ (in), 2 IN (power), 3 OUT (power)

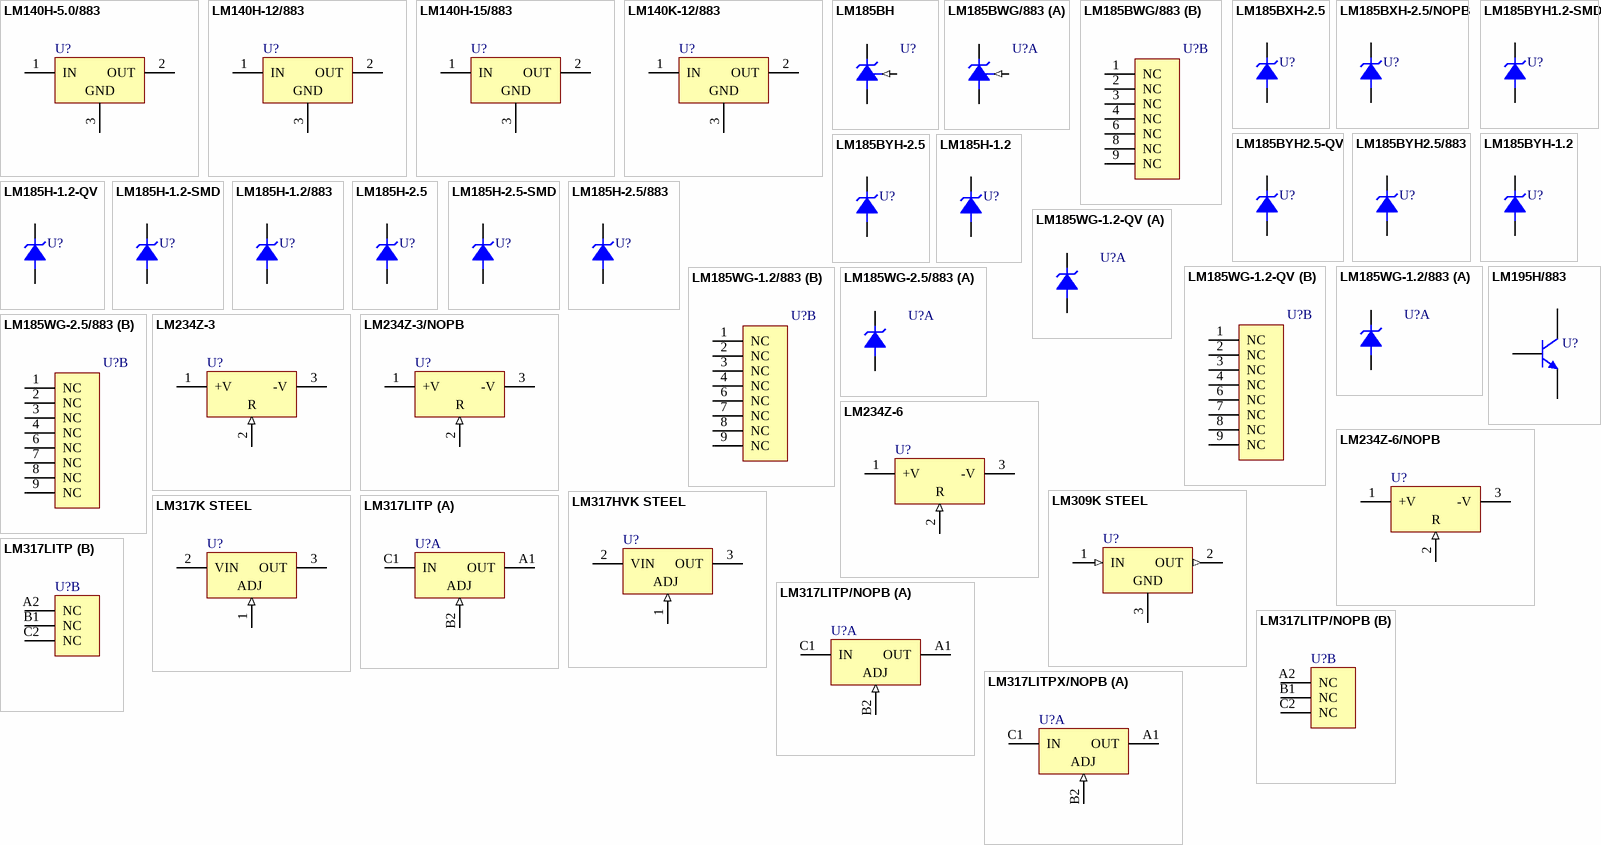
[diagram p1: symbols LM140H-5.0/883 to LM317LITPX/NOPB]

## LM140H-5.0/883
designator U?
Three Terminal Positive Regulators, 3 pin TO-39; PartNumber: LM140H-5.0/883; Manufacturer: National Semiconductor; PackageTopMarking: NS ZSSXXYYA*LM140H-5.0/883 Q; PowerWise: N; CompType: MiscPower; High-Reliability: Y; DatasheetVersion: Apr-2008; PackageVersion: revD, Feb-1995; PackageReference: H03A; PackageDescription: Metal Can, TO-39, 3 Lead, .200in Dia, P.C.; RoHS: N; PinCount: 3; Code_JEDEC: TO-39; ComponentLink1Description: Manufacturer URL; ComponentLink1URL: http://www.national.com/; ComponentLink2Description: LM140QML Datasheet; ComponentLink2URL: http://www.national.com/ds/LM/LM140QML.pdf; ComponentLink3Description: LM140QML Web Page; ComponentLink3URL: http://www.national.com/pf/LM/LM140QML.html; ComponentLink4Description: H03A Package Page; ComponentLink4URL: http://www.national.com/packaging/folders/h03a.html
footprint H03A (Can; 3 Leads; Pin Circle Dia. 5.08 mm; Lead Dia. 0.48 mm (max))
pins: 1 IN, 2 OUT, 3 GND (power)

## LM140H-12/883
designator U?
Three Terminal Positive Regulators, 3 pin TO-39; PartNumber: LM140H-12/883; Manufacturer: National Semiconductor; PackageTopMarking: NS ZSSXXYYA*LM140H-12/883 Q; PowerWise: N; CompType: MiscPower; High-Reliability: Y; DatasheetVersion: Apr-2008; PackageVersion: revD, Feb-1995; PackageReference: H03A; PackageDescription: Metal Can, TO-39, 3 Lead, .200in Dia, P.C.; RoHS: N; PinCount: 3; Code_JEDEC: TO-39; ComponentLink1Description: Manufacturer URL; ComponentLink1URL: http://www.national.com/; ComponentLink2Description: LM140QML Datasheet; ComponentLink2URL: http://www.national.com/ds/LM/LM140QML.pdf; ComponentLink3Description: LM140QML Web Page; ComponentLink3URL: http://www.national.com/pf/LM/LM140QML.html; ComponentLink4Description: H03A Package Page; ComponentLink4URL: http://www.national.com/packaging/folders/h03a.html
footprint H03A (Can; 3 Leads; Pin Circle Dia. 5.08 mm; Lead Dia. 0.48 mm (max))
pins: 1 IN, 2 OUT, 3 GND (power)

## LM140H-15/883
designator U?
Three Terminal Positive Regulators, 3 pin TO-39; PartNumber: LM140H-15/883; Manufacturer: National Semiconductor; PackageTopMarking: NS ZSSXXYYA*LM140H-15/883 Q; PowerWise: N; CompType: MiscPower; High-Reliability: Y; DatasheetVersion: Apr-2008; PackageVersion: revD, Feb-1995; PackageReference: H03A; PackageDescription: Metal Can, TO-39, 3 Lead, .200in Dia, P.C.; RoHS: N; PinCount: 3; Code_JEDEC: TO-39; ComponentLink1Description: Manufacturer URL; ComponentLink1URL: http://www.national.com/; ComponentLink2Description: LM140QML Datasheet; ComponentLink2URL: http://www.national.com/ds/LM/LM140QML.pdf; ComponentLink3Description: LM140QML Web Page; ComponentLink3URL: http://www.national.com/pf/LM/LM140QML.html; ComponentLink4Description: H03A Package Page; ComponentLink4URL: http://www.national.com/packaging/folders/h03a.html
footprint H03A (Can; 3 Leads; Pin Circle Dia. 5.08 mm; Lead Dia. 0.48 mm (max))
pins: 1 IN, 2 OUT, 3 GND (power)

## LM140K-12/883
designator U?
Three Terminal Positive Regulators, 2 pin TO-3; PartNumber: LM140K-12/883; Manufacturer: National Semiconductor; PackageTopMarking: NS ZSSXXYYA*LM140K-12*/883 Q; PowerWise: N; CompType: MiscPower; High-Reliability: Y; DatasheetVersion: Apr-2008; PackageVersion: revE, Sep-1995; PackageReference: K02C; PackageDescription: Metal Can TO-3, 2 Lead, Low Profile; RoHS: N; PinCount: 2; ComponentLink1Description: Manufacturer URL; ComponentLink1URL: http://www.national.com/; ComponentLink2Description: LM140QML Datasheet; ComponentLink2URL: http://www.national.com/ds/LM/LM140QML.pdf; ComponentLink3Description: LM140QML Web Page; ComponentLink3URL: http://www.national.com/pf/LM/LM140QML.html; ComponentLink4Description: K02C Package Page; ComponentLink4URL: http://www.national.com/packaging/folders/k02c.html
footprint K02C (Oval Flange Mount with (2) Offset Leads; Pin Spacing 10.92 mm; Lead Dia. 1.09 mm (max))
pins: 1 IN, 2 OUT, 3 GND (power)

## LM185BH
designator U?
Adjustable Micropower Voltage Reference, 3-pin TO-46; PartNumber: LM185BH; Manufacturer: National Semiconductor; PackageTopMarking: NSXYTTE# LM185BH; PowerWise: N; CompType: MiscPower; High-Reliability: Y; DatasheetVersion: Jan-2008; PackageVersion: revF, Apr-2002; PackageReference: H03H; PackageDescription: Metal Can, TO-46, 3 Lead, .100in Dia, P.C.; RoHS: N; PinCount: 3; Code_JEDEC: TO-46; ComponentLink1Description: Manufacturer URL; ComponentLink1URL: http://www.national.com/; ComponentLink2Description: LM185-ADJ Datasheet; ComponentLink2URL: http://www.national.com/ds/LM/LM185-ADJ.pdf; ComponentLink3Description: LM185-ADJ Web Page; ComponentLink3URL: http://www.national.com/pf/LM/LM185-ADJ.html; ComponentLink4Description: H03H Package Page; ComponentLink4URL: http://www.national.com/packaging/folders/h03h.html
footprint H03H (Can; 3 Leads; Pin Circle Dia. 2.54 mm; Lead Dia. 0.48 mm (max))
pins: 1 FB (in), 2 +V, 3 -V

## LM185BWG/883
designator U?
Adjustable Micropower Voltage Reference, 10 pin CERPACK; PartNumber: LM185BWG/883; Manufacturer: National Semiconductor; PackageTopMarking: NS*ZSSXXYYA*9091402QYA*LM185BWG*/883 Q; PowerWise: N; CompType: MiscPower; High-Reliability: Y; DatasheetVersion: Jun-2008; PackageVersion: revF, Oct-2008; PackageReference: WG10A; PackageDescription: Cerpack, .270 x .241 x .070in, 10 Lead, .050in Pitch, Gull Wing; RoHS: N; PinCount: 10; ComponentLink1Description: Manufacturer URL; ComponentLink1URL: http://www.national.com/; ComponentLink2Description: LM185QML Datasheet; ComponentLink2URL: http://www.national.com/ds/LM/LM185QML.pdf; ComponentLink3Description: LM185QML Web Page; ComponentLink3URL: http://www.national.com/pf/LM/LM185QML.html; ComponentLink4Description: WG10A Package Page; ComponentLink4URL: http://www.national.com/packaging/folders/wg10a.html
footprint WG10A_N (CERPACK, 10-Leads, Body 6.9x6.3mm, Pitch 1.27mm, IPC Medium Density)
footprint WG10A_L (CERPACK, 10-Leads, Body 6.9x6.3mm, Pitch 1.27mm, IPC High Density)
footprint WG10A_M (CERPACK, 10-Leads, Body 6.9x6.3mm, Pitch 1.27mm, IPC Low Density)
part A pins: 5 -V "Ground", 7 ADJ (in), 10 +V "+VREF"
part B pins: 1 NC, 2 NC, 3 NC, 4 NC, 6 NC, 8 NC, 9 NC

## LM185BXH-2.5
designator U?
Micropower Voltage Reference Diode, 2-pin TO-46; PartNumber: LM185BXH-2.5; Manufacturer: National Semiconductor; PackageTopMarking: NSXYTTE# LM185BXH2.5; PowerWise: N; CompType: MiscPower; High-Reliability: Y; DatasheetVersion: Jan-2008; PackageVersion: revF, Apr-2002; PackageReference: H02A; PackageDescription: Metal Can, TO-46, 2 Lead, .100in Dia, P.C.; RoHS: N; PinCount: 2; Code_JEDEC: TO-46; ComponentLink1Description: Manufacturer URL; ComponentLink1URL: http://www.national.com/; ComponentLink2Description: LM185-2.5 Datasheet; ComponentLink2URL: http://www.national.com/ds/LM/LM185-2.5.pdf; ComponentLink3Description: LM185-2.5 Web Page; ComponentLink3URL: http://www.national.com/pf/LM/LM185-2.5.html; ComponentLink4Description: H02A Package Page; ComponentLink4URL: http://www.national.com/packaging/folders/h02a.html
footprint H02A (Can; 2 Leads; Pin Circle Dia. 2.54 mm; Lead Dia. 0.48 mm (max))
pins: 1 V+ (power), 2 V- (power)

## LM185BXH-2.5/NOPB
designator U?
Micropower Voltage Reference Diode, 2-pin TO-46, Pb-Free; PartNumber: LM185BXH-2.5/NOPB; Manufacturer: National Semiconductor; PackageTopMarking: NSXYTTE# LM185BXH2.5; PowerWise: N; CompType: MiscPower; High-Reliability: Y; DatasheetVersion: Jan-2008; PackageVersion: revF, Apr-2002; PackageReference: H02A; PackageDescription: Metal Can, TO-46, 2 Lead, .100in Dia, P.C.; RoHS: Y; PinCount: 2; Code_JEDEC: TO-46; ComponentLink1Description: Manufacturer URL; ComponentLink1URL: http://www.national.com/; ComponentLink2Description: LM185-2.5 Datasheet; ComponentLink2URL: http://www.national.com/ds/LM/LM185-2.5.pdf; ComponentLink3Description: LM185-2.5 Web Page; ComponentLink3URL: http://www.national.com/pf/LM/LM185-2.5.html; ComponentLink4Description: H02A Package Page; ComponentLink4URL: http://www.national.com/packaging/folders/h02a.html
footprint H02A (Can; 2 Leads; Pin Circle Dia. 2.54 mm; Lead Dia. 0.48 mm (max))
pins: 1 V+ (power), 2 V- (power)

## LM185BYH1.2-SMD
designator U?
Micropower Voltage Reference Diode, 2-pin TO-46; PartNumber: LM185BYH1.2-SMD; Manufacturer: National Semiconductor; PackageTopMarking: NSZSSXXYYA 8759405XA Q; PowerWise: N; CompType: MiscPower; High-Reliability: Y; DatasheetVersion: Jan-2008; PackageVersion: revF, Apr-2002; PackageReference: H02A; PackageDescription: Metal Can, TO-46, 2 Lead, .100in Dia, P.C.; RoHS: N; PinCount: 2; Code_JEDEC: TO-46; ComponentLink1Description: Manufacturer URL; ComponentLink1URL: http://www.national.com/; ComponentLink2Description: LM185-1.2QML Datasheet; ComponentLink2URL: http://www.national.com/ds/LM/LM185-1.2QML.pdf; ComponentLink3Description: LM185-1.2QML Web Page; ComponentLink3URL: http://www.national.com/pf/LM/LM185-1.2QML.html; ComponentLink4Description: H02A Package Page; ComponentLink4URL: http://www.national.com/packaging/folders/h02a.html
footprint H02A (Can; 2 Leads; Pin Circle Dia. 2.54 mm; Lead Dia. 0.48 mm (max))
pins: 1 V+ (power), 2 V- (power)

## LM185BYH2.5-QV
designator U?
Micropower Voltage Reference Diode, 2-pin TO-46; PartNumber: LM185BYH2.5-QV; Manufacturer: National Semiconductor; PackageTopMarking: NSZSSXXYYA 8759406VXA Q; PowerWise: N; CompType: MiscPower; High-Reliability: Y; DatasheetVersion: Jan-2008; PackageVersion: revF, Apr-2002; PackageReference: H02A; PackageDescription: Metal Can, TO-46, 2 Lead, .100in Dia, P.C.; RoHS: N; PinCount: 2; Code_JEDEC: TO-46; ComponentLink1Description: Manufacturer URL; ComponentLink1URL: http://www.national.com/; ComponentLink2Description: LM185-2.5QML Datasheet; ComponentLink2URL: http://www.national.com/ds/LM/LM185-2.5QML.pdf; ComponentLink3Description: LM185-2.5QML Web Page; ComponentLink3URL: http://www.national.com/pf/LM/LM185-2.5QML.html; ComponentLink4Description: H02A Package Page; ComponentLink4URL: http://www.national.com/packaging/folders/h02a.html
footprint H02A (Can; 2 Leads; Pin Circle Dia. 2.54 mm; Lead Dia. 0.48 mm (max))
pins: 1 V+ (power), 2 V- (power)

## LM185BYH2.5/883
designator U?
Micropower Voltage Reference Diode, 2-pin TO-46; PartNumber: LM185BYH2.5/883; Manufacturer: National Semiconductor; PackageTopMarking: NSZSSXXYYA LM185BYH2.5 Q; PowerWise: N; CompType: MiscPower; High-Reliability: Y; DatasheetVersion: Jan-2008; PackageVersion: revF, Apr-2002; PackageReference: H02A; PackageDescription: Metal Can, TO-46, 2 Lead, .100in Dia, P.C.; RoHS: N; PinCount: 2; Code_JEDEC: TO-46; ComponentLink1Description: Manufacturer URL; ComponentLink1URL: http://www.national.com/; ComponentLink2Description: LM185-2.5QML Datasheet; ComponentLink2URL: http://www.national.com/ds/LM/LM185-2.5QML.pdf; ComponentLink3Description: LM185-2.5QML Web Page; ComponentLink3URL: http://www.national.com/pf/LM/LM185-2.5QML.html; ComponentLink4Description: H02A Package Page; ComponentLink4URL: http://www.national.com/packaging/folders/h02a.html
footprint H02A (Can; 2 Leads; Pin Circle Dia. 2.54 mm; Lead Dia. 0.48 mm (max))
pins: 1 V+ (power), 2 V- (power)

## LM185BYH-1.2
designator U?
Micropower Voltage Reference Diode, 2-pin TO-46; PartNumber: LM185BYH-1.2; Manufacturer: National Semiconductor; PackageTopMarking: NSXYTTE# LM185BYH1.2; PowerWise: N; CompType: MiscPower; High-Reliability: Y; DatasheetVersion: Jan-2008; PackageVersion: revF, Apr-2002; PackageReference: H02A; PackageDescription: Metal Can, TO-46, 2 Lead, .100in Dia, P.C.; RoHS: N; PinCount: 2; Code_JEDEC: TO-46; ComponentLink1Description: Manufacturer URL; ComponentLink1URL: http://www.national.com/; ComponentLink2Description: LM185-1.2 Datasheet; ComponentLink2URL: http://www.national.com/ds/LM/LM185-1.2.pdf; ComponentLink3Description: LM185-1.2 Web Page; ComponentLink3URL: http://www.national.com/pf/LM/LM185-1.2.html; ComponentLink4Description: H02A Package Page; ComponentLink4URL: http://www.national.com/packaging/folders/h02a.html
footprint H02A (Can; 2 Leads; Pin Circle Dia. 2.54 mm; Lead Dia. 0.48 mm (max))
pins: 1 V+ (power), 2 V- (power)